# EAGLE library part 61001018321 (library Board-to-Board (rev18a))
WR-PHD 2.54mm SMT Pin Header, 10 Pins =>Code : Con_BTB_PHD_2.54_1_SMT_61001018321 <http://katalog.we-online.de/media/images/eican/Con_BTB_PHD_2.54_1_SMT_6100xx18221_pf2.jpg> Details see: http://katalog.we-online.de/en/em/610_0xx_182_21 Created 2014-05-29, Karrer Zheng 2014 (C) Würth Elektronik
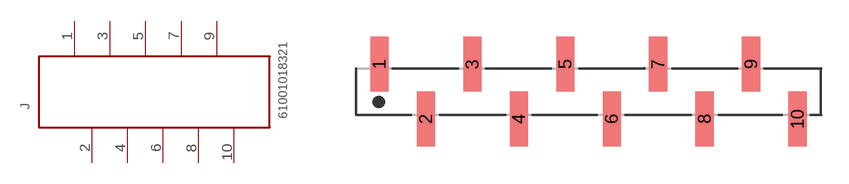
[diagram p68: symbol with the pads of 61001018321; footprint 61001018321]

Designator prefix J

## 61001018321  [61001018321]
1  10  pas
2  9  pas
3  8  pas
4  7  pas
5  6  pas
6  5  pas
7  4  pas
8  3  pas
9  2  pas
10  1  pas

## Footprint 61001018321 (pad centres in mm)
WR-PHD 2.54mm SMT Pin Header, 10Pins
smd 1 x 3: 1 -11.43,1.5; 2 -8.89,-1.5; 3 -6.35,1.5; 4 -3.81,-1.5; 5 -1.27,1.5; 6 1.27,-1.5; 7 3.81,1.5; 8 6.35,-1.5; 9 8.89,1.5; 10 11.43,-1.5